# EAGLE library part 74*826 (library 74xx-eu)
8-bit inverting bus interface FLIP FLOP
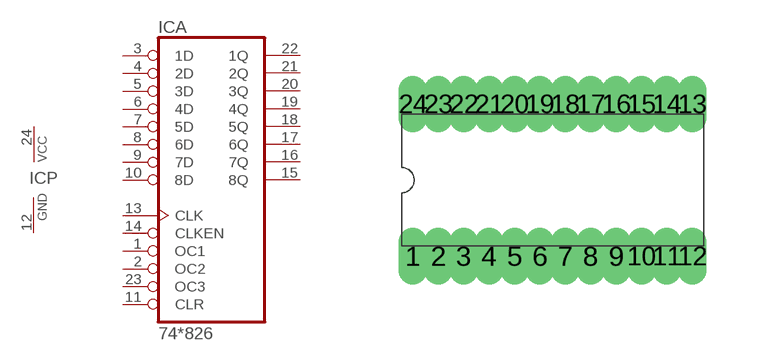
[diagram p302: symbol with the pads of DIL24-6; footprint DIL24-6]

Designator prefix IC; gates A=74826 P=PWRN

## 74826NT, 74AS826NT  [DIL24-6]
1  A:OC1  in
2  A:OC2  in
3  A:1D  in
4  A:2D  in
5  A:3D  in
6  A:4D  in
7  A:5D  in
8  A:6D  in
9  A:7D  in
10  A:8D  in
11  A:CLR  in
12  P:GND  pwr
13  A:CLK  in
14  A:CLKEN  in
15  A:8Q  hiz
16  A:7Q  hiz
17  A:6Q  hiz
18  A:5Q  hiz
19  A:4Q  hiz
20  A:3Q  hiz
21  A:2Q  hiz
22  A:1Q  hiz
23  A:OC3  in
24  P:VCC  pwr

## Footprint DIL24-6 (pad centres in mm)
Dual In Line Package 0.6 inch
drill 0.203 long: 1 -3.493,-1.905; 2 -2.857,-1.905; 3 -2.223,-1.905; 4 -1.587,-1.905; 5 -0.953,-1.905; 6 -0.318,-1.905; 7 0.318,-1.905; 8 0.953,-1.905; 9 1.587,-1.905; 10 2.223,-1.905; 11 2.857,-1.905; 12 3.493,-1.905; 13 3.493,1.905; 14 2.857,1.905; 15 2.223,1.905; 16 1.587,1.905; 17 0.953,1.905; 18 0.318,1.905; 19 -0.318,1.905; 20 -0.953,1.905; 21 -1.587,1.905; 22 -2.223,1.905; 23 -2.857,1.905; 24 -3.493,1.905